# Altium schematic symbol library OPA1632DGNR.SchLib: 1 symbol
Pins are listed as number, name and electrical type; pins without a type are passive.

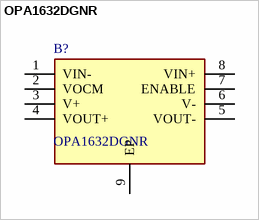
[diagram p0: symbol OPA1632DGNR]

## OPA1632DGNR
designator B?
Fully Differential I/O Audio Amplifier; Manufacturer_Name: Texas Instruments; Geometry.Height: 1.1mm; Mouser Part Number: 595-OPA1632DGNR; Mouser Price/Stock: https://www.mouser.co.uk/ProductDetail/Texas-Instruments/OPA1632DGNR?qs=7nS3%252BbEUL6t46Xk02kKOHg%3D%3D; Manufacturer_Part_Number: OPA1632DGNR; Datasheet Link: http://www.ti.com/lit/gpn/OPA1632
footprint SOP65P490X110-9N
pins: 1 VIN-, 2 VOCM, 3 V+, 4 VOUT+, 5 VOUT-, 6 V-, 7 ENABLE, 8 VIN+, 9 EP